# EAGLE library part 686126148922 (library Eagle_FPC_CONNECTOR_AND_FFC_CAB (rev18c))
WR-FPC 1mm SMT Horiz. Bot. Contact Hinge type WR-FPC 1mm 26 pins Hinge type SMT Horizontal Bottom Contact ;=>Code : Con_FPC_ZIF_1.00_6861xx148922_686126148922 <http://katalog.we-online.de/media/images/eican/Con_FPC_ZIF_1.00_686110148922_pf2.jpg> Details see: http://katalog.we-online.de/em/datasheet/6861xx148922.pdf Created 2014-10-08, Karrer Zheng 2014 (C) Wurth Elektronik
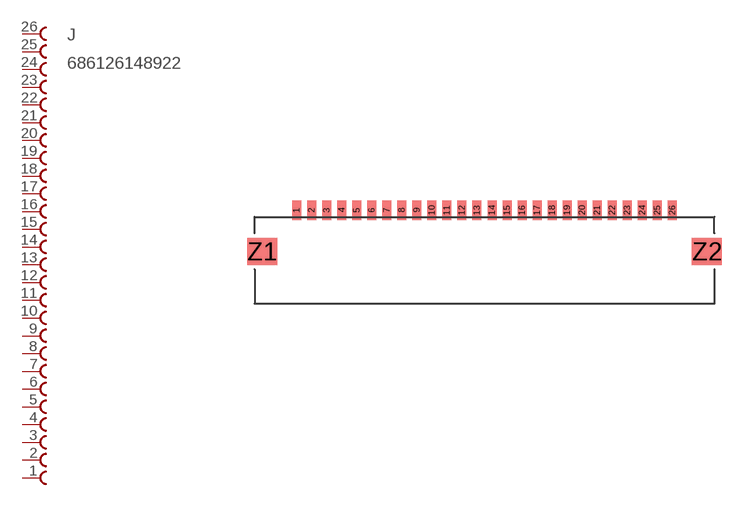
[diagram p101: symbol with the pads of 686126148922; footprint 686126148922]

Designator prefix J

## 686126148922  [686126148922]
1  26  pas
2  25  pas
3  24  pas
4  23  pas
5  22  pas
6  21  pas
7  20  pas
8  19  pas
9  18  pas
10  17  pas
11  16  pas
12  15  pas
13  14  pas
14  13  pas
15  12  pas
16  11  pas
17  10  pas
18  9  pas
19  8  pas
20  7  pas
21  6  pas
22  5  pas
23  4  pas
24  3  pas
25  2  pas
26  1  pas

## Footprint 686126148922 (pad centres in mm)
WR-FPC 1mm SMT Horiz. Bot. Contact Hinge type WR-FPC 1mm 26pins Hinge type SMT Horizontal Bottom Contact
smd 0.6 x 1.3: 1 -12.5,2.75; 2 -11.5,2.75; 3 -10.5,2.75; 4 -9.5,2.75; 5 -8.5,2.75; 6 -7.5,2.75; 7 -6.5,2.75; 8 -5.5,2.75; 9 -4.5,2.75; 10 -3.5,2.75; 11 -2.5,2.75; 12 -1.5,2.75; 13 -0.5,2.75; 14 0.5,2.75; 15 1.5,2.75; 16 2.5,2.75; 17 3.5,2.75; 18 4.5,2.75; 19 5.5,2.75; 20 6.5,2.75; 21 7.5,2.75; 22 8.5,2.75; 23 9.5,2.75; 24 10.5,2.75; 25 11.5,2.75; 26 12.5,2.75
smd 2 x 1.8: Z1 -14.8,0; Z2 14.8,0